# Altium footprint library IRF510.PcbLib: 3 footprints
Each footprint in its own frame and in the unit in brackets; x right, y up, seen from the top. Pads: shape width x height; smd on the part's side, far side on the other; paste and mask are expansions set on the pad; w line width, h text height; cw(c..) or ccw(c..) is an arc to the next point about the centre after c.
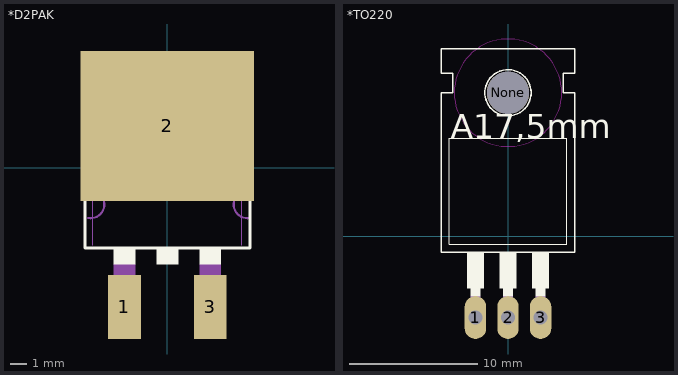
[diagram p0: the footprints below, top view; thin cyan lines are the x and y axes]

## *D2PAK [mm]
pads (3):
  rect 1.93x3.81 smd: 1(-2.55,-8.25) 3(2.55,-8.25)
  rect 10.3x8.9 smd: 2(0,2.5)
Top Overlay:
  region: -0.635,-4.762 0.635,-4.762 0.635,-5.715 -0.635,-5.715
  region: 1.905,-4.763 3.175,-4.763 3.175,-5.715 1.905,-5.715
  region: -3.175,-4.763 -1.905,-4.763 -1.905,-5.715 -3.175,-5.715
  lines w0.178: -4.898,-4.763 -4.898,4.445 4.898,4.445 4.898,-4.763 -4.898,-4.763
Mechanical 4:
  circle w0.127: c0,0 r1.004
  circle w0.127: c0,0 r1.004
  region: 1.905,-5.715 3.175,-5.715 3.175,-7.62 1.905,-7.62
  region: -3.175,-5.715 -1.905,-5.715 -1.905,-7.62 -3.175,-7.62
  region: 1.905,-5.715 3.175,-5.715 3.175,-7.62 1.905,-7.62
  region: -3.175,-5.715 -1.905,-5.715 -1.905,-7.62 -3.175,-7.62
  lines w0.051: -4.421,3.969 -4.421,-4.604 -4.421,3.969 ; -4.421,3.969 4.421,3.969 ; -4.421,3.969 4.421,3.969 ; 4.421,3.969 4.421,-4.604 4.421,3.969
  lines w0.127: -4.711,-2.973 ccw(c-4.557,-2.179) -4.711,-1.384 cw(c-4.557,-2.179) -4.711,-2.973 ; 4.894,-2.973 cw(c4.739,-2.179) 4.894,-1.384 ccw(c4.739,-2.179) 4.894,-2.973
  lines w0.178: -4.898,5.08 -4.58,5.397 ; -4.898,5.08 -4.898,4.445 -4.898,5.08 ; -4.898,5.08 -4.58,5.397 ; -4.58,5.397 -4.045,5.397 ; -4.58,5.397 -4.045,5.397 ; -4.045,5.08 4.045,5.08 ; -4.045,5.08 -4.045,5.397 ; -4.045,5.08 4.045,5.08 ; -4.045,5.08 -4.045,5.397 ; 4.045,5.08 4.045,5.397 ; 4.045,5.08 4.045,5.397 ; 4.045,5.397 4.58,5.397 ; 4.045,5.397 4.58,5.397 ; 4.58,5.397 4.898,5.08 ; 4.58,5.397 4.898,5.08 ; 4.898,5.08 4.898,4.445 4.898,5.08
  text "2" at -0.549,1.865 h1.88
  text "3" at 2.626,-4.326 h1.88
  text "1" at -3.565,-4.326 h1.88
  text "2" at -0.549,1.865 h1.88
  text "3" at 2.626,-4.326 h1.88
  text "1" at -3.565,-4.326 h1.88

## *TO220 [mil]
pads (4):
  oval 66x132 hole 44: 1(-100,-250) 2(0,-250) 3(100,-250)
  round 130 hole 130 unplated: None(0,440)
Top Overlay:
  circle w5: c0,440 r71
  region: 75,-50 125,-50 125,-160 75,-160
  region: -25,-50 25,-50 25,-160 -25,-160
  region: -125,-50 -75,-50 -75,-160 -125,-160
  region: -115,-160 -85,-160 -85,-185 -115,-185
  region: -15,-160 15,-160 15,-185 -15,-185
  region: 85,-160 115,-160 115,-185 85,-185
  lines w2: -180,-25 -180,300 180,300 180,-25 -180,-25
  lines w5: -205,-50 -205,440 -170,440 -170,500 -205,500 -205,575 205,575 205,500 170,500 170,440 205,440 205,-50 -205,-50
  text "A17,5mm" at -175,300.16 h73.82
Keep-Out Layer:
  circle w0: c0,440 r165
  circle w0: c0,440 r165
  circle w0: c0,440 r165
  circle w0: c0,440 r165
  circle w0: c0,440 r165
  circle w0: c0,440 r165
Mechanical 4:
  region: 85,-185 115,-185 115,-260 85,-260
  region: -15,-185 15,-185 15,-260 -15,-260
  region: -115,-185 -85,-185 -85,-260 -115,-260
  region: 85,-185 115,-185 115,-260 85,-260
  region: -15,-185 15,-185 15,-260 -15,-260
  region: -115,-185 -85,-185 -85,-260 -115,-260
  text "3" at 75,-9.84 h73.82
  text "2" at -25,-9.84 h73.82
  text "1" at -125,-9.84 h73.82
  text "3" at 75,-9.84 h73.82
  text "2" at -25,-9.84 h73.82
  text "1" at -125,-9.84 h73.82

## PCBComponent_1 [mil]